# EAGLE library part 74*393 (library TI_Chips)
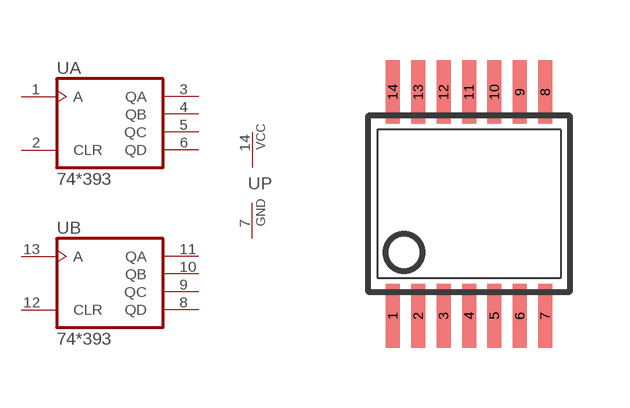
[diagram p4: symbol with the pads of TSSOP14; footprint TSSOP14]

Designator prefix -; gates A=74393 B=74393 P=PWRN

## 74393AT-PWRQ1  [TSSOP14]
1  A:A  in
2  A:CLR  in
3  A:QA  out
4  A:QB  out
5  A:QC  out
6  A:QD  out
7  P:GND  pwr
8  B:QD  out
9  B:QC  out
10  B:QB  out
11  B:QA  out
12  B:CLR  in
13  B:A  in
14  P:VCC  pwr

## Footprint TSSOP14 (pad centres in mm)
Thin Shrink Small Outline Plastic 14
smd 0.35 x 1.6: 1 -1.905,-2.8; 2 -1.27,-2.8; 3 -0.635,-2.8; 4 0,-2.8; 5 0.635,-2.8; 6 1.27,-2.8; 7 1.905,-2.8; 8 1.905,2.8; 9 1.27,2.8; 10 0.635,2.8; 11 0,2.8; 12 -0.635,2.8; 13 -1.27,2.8; 14 -1.905,2.8